# Altium footprint library MergenElektronik_Resistors_ShuntResistors.PcbLib: 1 footprints
Each footprint in its own frame and in the unit in brackets; x right, y up, seen from the top. Pads: shape width x height; smd on the part's side, far side on the other; paste and mask are expansions set on the pad; w line width, h text height; cw(c..) or ccw(c..) is an arc to the next point about the centre after c.
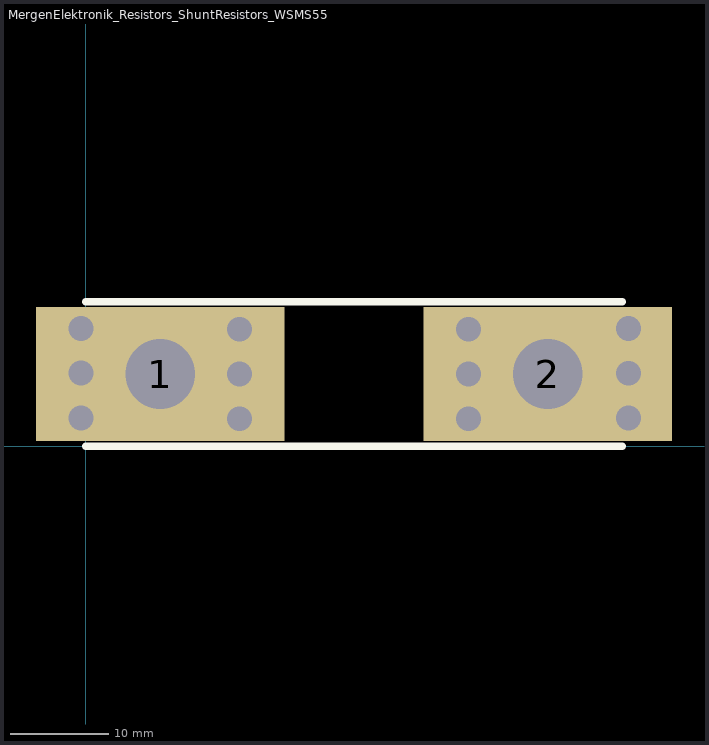
[diagram p0: the footprint, top view; thin cyan lines are the x and y axes]

## MergenElektronik_Resistors_ShuntResistors_WSMS5515L1000JK [mil] "WSMS5515L1000JK"
pads (2):
  rect 1000x540 hole 280: 1(300,290) 2(1860,290)
via 620,290 diameter 100 hole 100
via 620,110 diameter 100 hole 100
via 620,470 diameter 100 hole 100
via -18.36,293.35 diameter 100 hole 100
via -18.36,473.35 diameter 100 hole 100
via -18.36,113.35 diameter 100 hole 100
via 1540,290 diameter 100 hole 100
via 1540,470 diameter 100 hole 100
via 1540,110 diameter 100 hole 100
via 2184.2,292.84 diameter 100 hole 100
via 2184.2,112.84 diameter 100 hole 100
via 2184.2,472.84 diameter 100 hole 100
Top Overlay:
  lines w30: 0,0 2160,0 ; 0,580 2160,580
3D body "WSMS5515L1000JK.step": height 115.75, standoff 0, extent 0,0 2165.35,590.55